# EAGLE library part VIDEO_H (library Amiga)
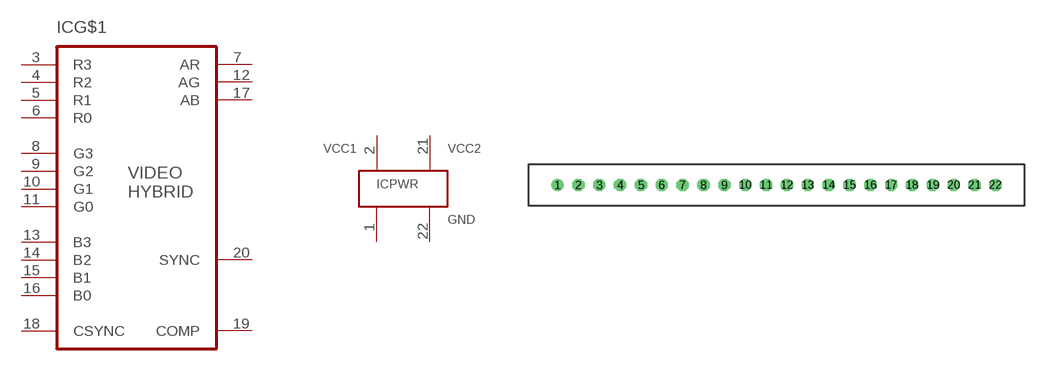
[diagram p6: symbol with the pads of SIP22; footprint SIP22]

Designator prefix IC; gates G$1=VIDEO_H PWR=1VCC-1VCC2-2GND

## VIDEO_H  [SIP22]
1  PWR:GND  pwr
2  PWR:VCC  pwr
3  G$1:R3  in
4  G$1:R2  in
5  G$1:R1  in
6  G$1:R0  in
7  G$1:AR  out
8  G$1:G3  in
9  G$1:G2  in
10  G$1:G1  in
11  G$1:G0  in
12  G$1:AG  out
13  G$1:B3  in
14  G$1:B2  in
15  G$1:B1  in
16  G$1:B0  in
17  G$1:AB  out
18  G$1:CSYNC  in
19  G$1:COMP  out
20  G$1:SYNC  out
21  PWR:VCC  pwr
22  PWR:GND  pwr

## Footprint SIP22 (pad centres in mm)
drill 0.9 pad 1.5: 1 -26.67,0
drill 0.9 pad 1.5 octagon: 2 -24.13,0; 3 -21.59,0; 4 -19.05,0; 5 -16.51,0; 6 -13.97,0; 7 -11.43,0; 8 -8.89,0; 9 -6.35,0; 10 -3.81,0; 11 -1.27,0; 12 1.27,0; 13 3.81,0; 14 6.35,0; 15 8.89,0; 16 11.43,0; 17 13.97,0; 18 16.51,0; 19 19.05,0; 20 21.59,0; 21 24.13,0; 22 26.67,0